# Altium schematic symbol library C2012X5R1V156M125AC.SchLib: 1 symbol
Pins are listed as number, name and electrical type; pins without a type are passive.

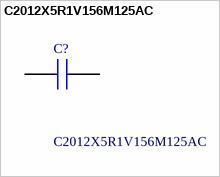
[diagram p0: symbol C2012X5R1V156M125AC]

## C2012X5R1V156M125AC
designator C?
MULTILAYER CERAMIC CHIP CAPACITORS, 2012, Commercial grade, general (Up to 75V); Manufacturer_Name: TDK; Geometry.Height: 1.45mm; Manufacturer_Part_Number: C2012X5R1V156M125AC; Mouser Part Number: 810-C2012X5R1V156M1C; Mouser Price/Stock: https://www.mouser.co.uk/ProductDetail/TDK/C2012X5R1V156M125AC?qs=xLDY6iXSiQZGpZ5eDP6b8w%3D%3D; Arrow Part Number: C2012X5R1V156M125AC; Arrow Price/Stock: https://www.arrow.com/en/products/c2012x5r1v156m125ac/tdk?region=nac; Datasheet Link: https://product.tdk.com/info/en/catalog/datasheets/mlcc_commercial_midvoltage_en.pdf
footprint CAPC2012X145N
pins: 1, 2